# EAGLE library part SAMTEC-SMH-120-02-X-D (library SAMTEC-SMH-120-02-X-D)
Check availability <https://pricing.snapeda.com/parts/SMH-120-02-G-D/Samtec/view-part?ref=eda>
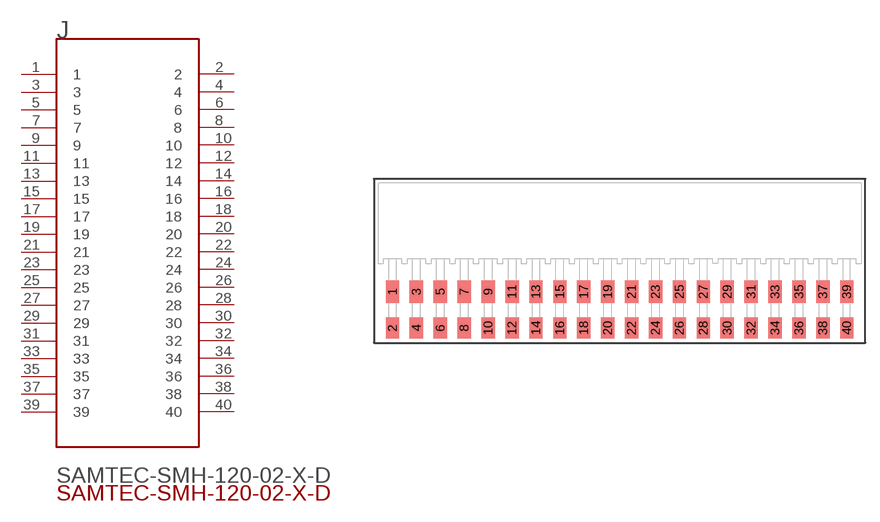
[diagram p0: symbol with the pads of SAMTEC-SMH-120-02-X-D; footprint SAMTEC-SMH-120-02-X-D]

Designator prefix J

## SAMTEC-SMH-120-02-X-DJ (AVAILABILITY: In Stock; DESCRIPTION: 40 Position Receptacle Connector 0.100 (2.54mm) Surface Mount, Right Angle Gold; MF: Samtec; MP: SMH-120-02-G-D; PACKAGE: None; PRICE: None; PURCHASE-URL: https://pricing.snapeda.com/search/part/SMH-120-02-G-D/?ref=eda)  [SAMTEC-SMH-120-02-X-D]
1  1  pas
2  2  pas
3  3  pas
4  4  pas
5  5  pas
6  6  pas
7  7  pas
8  8  pas
9  9  pas
10  10  pas
11  11  pas
12  12  pas
13  13  pas
14  14  pas
15  15  pas
16  16  pas
17  17  pas
18  18  pas
19  19  pas
20  20  pas
21  21  pas
22  22  pas
23  23  pas
24  24  pas
25  25  pas
26  26  pas
27  27  pas
28  28  pas
29  29  pas
30  30  pas
31  31  pas
32  32  pas
33  33  pas
34  34  pas
35  35  pas
36  36  pas
37  37  pas
38  38  pas
39  39  pas
40  40  pas

## Footprint SAMTEC-SMH-120-02-X-D (pad centres in mm)
translated Allegro footprint
smd 1.42 x 2.34: 1 -24.13,-7.277; 3 -21.59,-7.277; 5 -19.05,-7.277; 7 -16.51,-7.277; 9 -13.97,-7.277; 11 -11.43,-7.277; 13 -8.89,-7.277; 15 -6.35,-7.277; 17 -3.81,-7.277; 19 -1.27,-7.277; 21 1.27,-7.277; 23 3.81,-7.277; 25 6.35,-7.277; 27 8.89,-7.277; 29 11.43,-7.277; 31 13.97,-7.277; 33 16.51,-7.277; 35 19.05,-7.277; 37 21.59,-7.277; 39 24.13,-7.277
smd 1.42 x 2.24: 2 -24.13,-11.138; 4 -21.59,-11.138; 6 -19.05,-11.138; 8 -16.51,-11.138; 10 -13.97,-11.138; 12 -11.43,-11.138; 14 -8.89,-11.138; 16 -6.35,-11.138; 18 -3.81,-11.138; 20 -1.27,-11.138; 22 1.27,-11.138; 24 3.81,-11.138; 26 6.35,-11.138; 28 8.89,-11.138; 30 11.43,-11.138; 32 13.97,-11.138; 34 16.51,-11.138; 36 19.05,-11.138; 38 21.59,-11.138; 40 24.13,-11.138